# Altium footprint library MD Edge Connectors.PcbLib: 8 footprints
Each footprint in its own frame and in the unit in brackets; x right, y up, seen from the top. Pads: shape width x height; smd on the part's side, far side on the other; paste and mask are expansions set on the pad; w line width, h text height; cw(c..) or ccw(c..) is an arc to the next point about the centre after c.
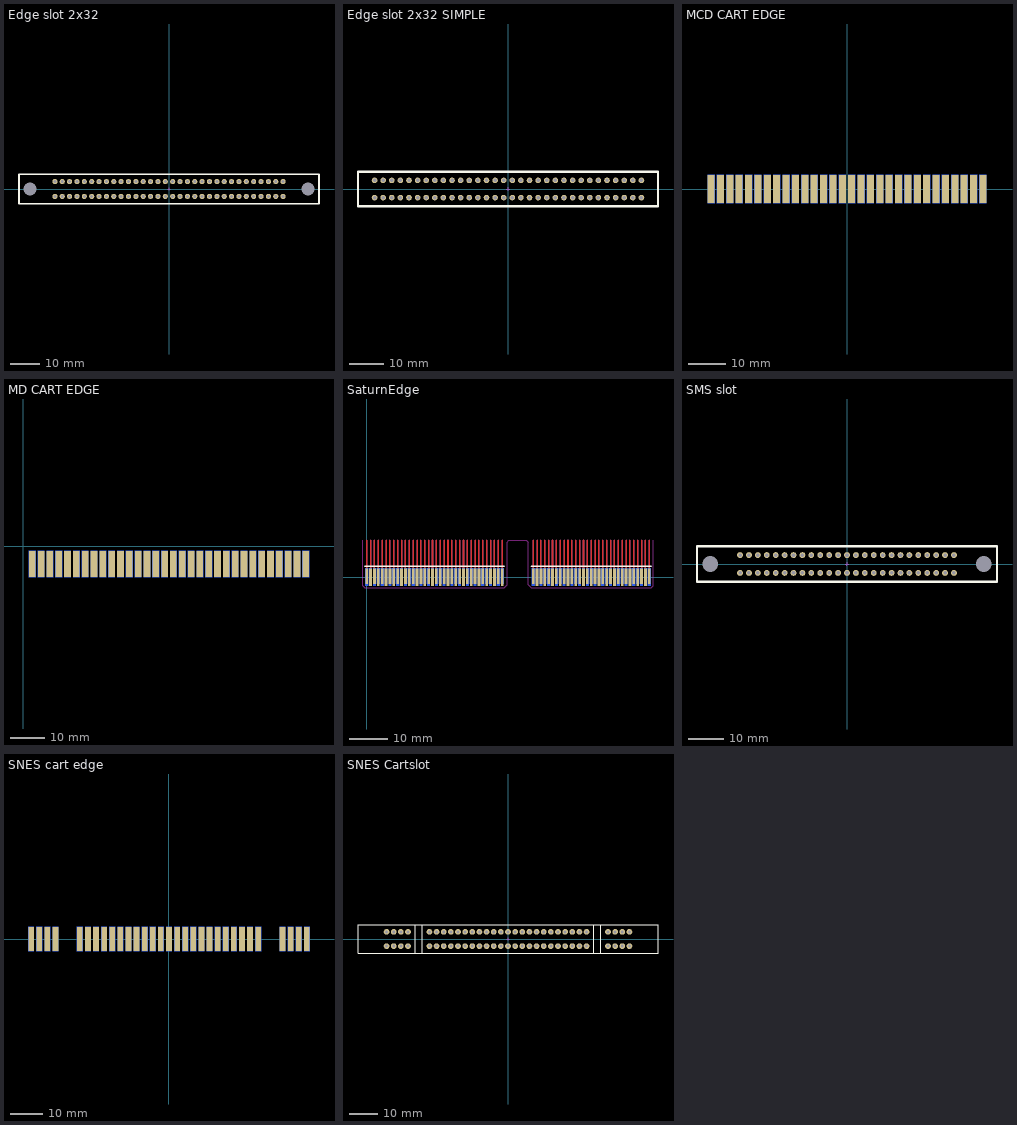
[diagram p0: the footprints below, top view; thin cyan lines are the x and y axes]

## Edge slot 2x32 [mil]
height 472.44
pads (66):
  round 75 hole 177.17 unplated paste-100: -(-1888.58,0) -(1888.58,0)
  round 70 hole 40: A1(-1550,100) A2(-1450,100) A3(-1350,100) A4(-1250,100) A5(-1150,100) A6(-1050,100) A7(-950,100) A8(-850,100) A9(-750,100) A10(-650,100) A11(-550,100) A12(-450,100) A13(-350,100) A14(-250,100) A15(-150,100) A16(-50,100) A17(50,100) A18(150,100) A19(250,100) A20(350,100) A21(450,100) A22(550,100) A23(650,100) A24(750,100) A25(850,100) A26(950,100) A27(1050,100) A28(1150,100) A29(1250,100) A30(1350,100) A31(1450,100) A32(1550,100) B1(-1550,-100) B2(-1450,-100) B3(-1350,-100) B4(-1250,-100) B5(-1150,-100) B6(-1050,-100) B7(-950,-100) B8(-850,-100) B9(-750,-100) B10(-650,-100) B11(-550,-100) B12(-450,-100) B13(-350,-100) B14(-250,-100) B15(-150,-100) B16(-50,-100) B17(50,-100) B18(150,-100) B19(250,-100) B20(350,-100) B21(450,-100) B22(550,-100) B23(650,-100) B24(750,-100) B25(850,-100) B26(950,-100) B27(1050,-100) B28(1150,-100) B29(1250,-100) B30(1350,-100) B31(1450,-100) B32(1550,-100)
Top Overlay:
  lines w25: -2037.4,-200 -2037.4,200 2037.4,200 2037.4,-200 -2037.4,-200
Mechanical 15:
  lines w3.94: -19.68,0 19.69,0 ; 0,-19.69 0,19.68
3D body "345-064-520-202 - EDAC Card Edge Connector.STEP": height 600.79, standoff -174.21, extent -2017.5,-185 2017.5,185

## Edge slot 2x32 SIMPLE [mil]
height 472.44
pads (64):
  round 65 hole 40: A1(-1550,100) A2(-1450,100) A3(-1350,100) A4(-1250,100) A5(-1150,100) A6(-1050,100) A7(-950,100) A8(-850,100) A9(-750,100) A10(-650,100) A11(-550,100) A12(-450,100) A13(-350,100) A14(-250,100) A15(-150,100) A16(-50,100) A17(50,100) A18(150,100) A19(250,100) A20(350,100) A21(450,100) A22(550,100) A23(650,100) A24(750,100) A25(850,100) A26(950,100) A27(1050,100) A28(1150,100) A29(1250,100) A30(1350,100) A31(1450,100) A32(1550,100) B1(-1550,-100) B2(-1450,-100) B3(-1350,-100) B4(-1250,-100) B5(-1150,-100) B6(-1050,-100) B7(-950,-100) B8(-850,-100) B9(-750,-100) B10(-650,-100) B11(-550,-100) B12(-450,-100) B13(-350,-100) B14(-250,-100) B15(-150,-100) B16(-50,-100) B17(50,-100) B18(150,-100) B19(250,-100) B20(350,-100) B21(450,-100) B22(550,-100) B23(650,-100) B24(750,-100) B25(850,-100) B26(950,-100) B27(1050,-100) B28(1150,-100) B29(1250,-100) B30(1350,-100) B31(1450,-100) B32(1550,-100)
Top Overlay:
  lines w25: -1742.13,-200 -1742.13,200 1742.13,200 1742.13,-200 -1742.13,-200
Mechanical 15:
  lines w3.94: -19.68,0 19.69,0 ; 0,-19.69 0,19.68
3D body "10046971001LFc.stp": height 609.84, standoff -125.59, extent -1729.52,-184.05 1729.53,184.06

## MCD CART EDGE [mil]
pads (60):
  rect 75x300 smd far side paste-100 mask+10: A1(-1450,0) A2(-1350,0) A3(-1250,0) A4(-1150,0) A5(-1050,0) A6(-950,0) A7(-850,0) A8(-750,0) A9(-650,0) A10(-550,0) A11(-450,0) A12(-350,0) A13(-250,0) A14(-150,0) A15(-50,0) A16(50,0) A17(150,0) A18(250,0) A19(350,0) A20(450,0) A21(550,0) A22(650,0) A23(750,0) A24(850,0) A25(950,0) A26(1050,0) A27(1150,0) A28(1250,0) A29(1350,0) A30(1450,0)
  rect 75x300 smd paste-100 mask+10: B1(-1450,0) B2(-1350,0) B3(-1250,0) B4(-1150,0) B5(-1050,0) B6(-950,0) B7(-850,0) B8(-750,0) B9(-650,0) B10(-550,0) B11(-450,0) B12(-350,0) B13(-250,0) B14(-150,0) B15(-50,0) B16(50,0) B17(150,0) B18(250,0) B19(350,0) B20(450,0) B21(550,0) B22(650,0) B23(750,0) B24(850,0) B25(950,0) B26(1050,0) B27(1150,0) B28(1250,0) B29(1350,0) B30(1450,0)

## MD CART EDGE [mil]
pads (64):
  rect 75x300 smd far side paste-100 mask+10: A1(100,-200) A2(200,-200) A3(300,-200) A4(400,-200) A5(500,-200) A6(600,-200) A7(700,-200) A8(800,-200) A9(900,-200) A10(1000,-200) A11(1100,-200) A12(1200,-200) A13(1300,-200) A14(1400,-200) A15(1500,-200) A16(1600,-200) A17(1700,-200) A18(1800,-200) A19(1900,-200) A20(2000,-200) A21(2100,-200) A22(2200,-200) A23(2300,-200) A24(2400,-200) A25(2500,-200) A26(2600,-200) A27(2700,-200) A28(2800,-200) A29(2900,-200) A30(3000,-200) A31(3100,-200) A32(3200,-200)
  rect 75x300 smd paste-100 mask+10: B1(100,-200) B2(200,-200) B3(300,-200) B4(400,-200) B5(500,-200) B6(600,-200) B7(700,-200) B8(800,-200) B9(900,-200) B10(1000,-200) B11(1100,-200) B12(1200,-200) B13(1300,-200) B14(1400,-200) B15(1500,-200) B16(1600,-200) B17(1700,-200) B18(1800,-200) B19(1900,-200) B20(2000,-200) B21(2100,-200) B22(2200,-200) B23(2300,-200) B24(2400,-200) B25(2500,-200) B26(2600,-200) B27(2700,-200) B28(2800,-200) B29(2900,-200) B30(3000,-200) B31(3100,-200) B32(3200,-200)

## SaturnEdge [mm] "Saturn cart edge connector 134 pins"
pads (134):
  rect 0.7x4.5 smd far side paste-10 mask-10: A1(0,0) A3(2,0) A5(4,0) A7(6,0) A9(8,0) A11(10,0) A13(12,0) A15(14,0) A17(16,0) A19(18,0) A21(20,0) A23(22,0) A25(24,0) A27(26,0) A29(28,0) A31(30,0) A33(32,0) A35(34,0) A37(43,0) A39(45,0) A41(47,0) A43(49,0) A45(51,0) A47(53,0) A49(55,0) A51(57,0) A53(59,0) A55(61,0) A57(63,0) A59(65,0) A61(67,0) A63(69,0) A65(71,0) A67(73,0)
  rect 0.7x4 smd far side paste-10 mask-10: A2(1,0.25) A4(3,0.25) A6(5,0.25) A8(7,0.25) A10(9,0.25) A12(11,0.25) A14(13,0.25) A16(15,0.25) A18(17,0.25) A20(19,0.25) A22(21,0.25) A24(23,0.25) A26(25,0.25) A28(27,0.25) A30(29,0.25) A32(31,0.25) A34(33,0.25) A36(35,0.25) A38(44,0.25) A40(46,0.25) A42(48,0.25) A44(50,0.25) A46(52,0.25) A48(54,0.25) A50(56,0.25) A52(58,0.25) A54(60,0.25) A56(62,0.25) A58(64,0.25) A60(66,0.25) A62(68,0.25) A64(70,0.25) A66(72,0.25)
  rect 0.7x4 smd paste-10 mask-10: B1(0,0.25) B3(2,0.25) B5(4,0.25) B7(6,0.25) B9(8,0.25) B11(10,0.25) B13(12,0.25) B15(14,0.25) B17(16,0.25) B19(18,0.25) B21(20,0.25) B23(22,0.25) B25(24,0.25) B27(26,0.25) B29(28,0.25) B31(30,0.25) B33(32,0.25) B35(34,0.25) B37(43,0.25) B39(45,0.25) B41(47,0.25) B43(49,0.25) B45(51,0.25) B47(53,0.25) B49(55,0.25) B51(57,0.25) B53(59,0.25) B55(61,0.25) B57(63,0.25) B59(65,0.25) B61(67,0.25) B63(69,0.25) B65(71,0.25) B67(73,0.25)
  rect 0.7x4.5 smd paste-10 mask-10: B2(1,0) B4(3,0) B6(5,0) B8(7,0) B10(9,0) B12(11,0) B14(13,0) B16(15,0) B18(17,0) B20(19,0) B22(21,0) B24(23,0) B26(25,0) B28(27,0) B30(29,0) B32(31,0) B34(33,0) B36(35,0) B38(44,0) B40(46,0) B42(48,0) B44(50,0) B46(52,0) B48(54,0) B50(56,0) B52(58,0) B54(60,0) B56(62,0) B58(64,0) B60(66,0) B62(68,0) B64(70,0) B66(72,0)
Top Layer:
  lines w0.4: 0,0.25 0,9.5 ; 1,0 1,9.5 ; 2,0.25 2,9.5 ; 3,0 3,9.5 ; 4,0.25 4,9.5 ; 5,0 5,9.5 ; 6,0.25 6,9.5 ; 7,0 7,9.5 ; 8,0.25 8,9.5 ; 9,0 9,9.5 ; 10,0.25 10,9.5 ; 11,0 11,9.5 ; 12,0.25 12,9.5 ; 13,0 13,9.5 ; 14,0.25 14,9.5 ; 15,0 15,9.5 ; 16,0.25 16,9.5 ; 17,0 17,9.5 ; 18,0.25 18,9.5 ; 19,0 19,9.5 ; 20,0.25 20,9.5 ; 21,0 21,9.5 ; 22,0.25 22,9.5 ; 23,0 23,9.5 ; 24,0.25 24,9.5 ; 25,0 25,9.5 ; 26,0.25 26,9.5 ; 27,0 27,9.5 ; 28,0.25 28,9.5 ; 29,0 29,9.5 ; 30,0.25 30,9.5 ; 31,0 31,9.5 ; 32,0.25 32,9.5 ; 33,0 33,9.5 ; 34,0.25 34,9.5 ; 35,0 35,9.5 ; 43,0.25 43,9.5 ; 44,0 44,9.5 ; 45,0.25 45,9.5 ; 46,0 46,9.5 ; 47,0.25 47,9.5 ; 48,0 48,9.5 ; 49,0.25 49,9.5 ; 50,0 50,9.5 ; 51,0.25 51,9.5 ; 52,0 52,9.5 ; 53,0.25 53,9.5 ; 54,0 54,9.5 ; 55,0.25 55,9.5 ; 56,0 56,9.5 ; 57,0.25 57,9.5 ; 58,0 58,9.5 ; 59,0.25 59,9.5 ; 60,0 60,9.5 ; 61,0.25 61,9.5 ; 62,0 62,9.5 ; 63,0.25 63,9.5 ; 64,0 64,9.5 ; 65,0.25 65,9.5 ; 66,0 66,9.5 ; 67,0.25 67,9.5 ; 68,0 68,9.5 ; 69,0.25 69,9.5 ; 70,0 70,9.5 ; 71,0.25 71,9.5 ; 72,0 72,9.5 ; 73,0.25 73,9.5
Bottom Layer:
  lines w0.4: 0,0 0,9.5 ; 1,0.25 1,9.5 ; 2,0 2,9.5 ; 3,0.25 3,9.5 ; 4,0 4,9.5 ; 5,0.25 5,9.5 ; 6,0 6,9.5 ; 7,0.25 7,9.5 ; 8,0 8,9.5 ; 9,0.25 9,9.5 ; 10,0 10,9.5 ; 11,0.25 11,9.5 ; 12,0 12,9.5 ; 13,0.25 13,9.5 ; 14,0 14,9.5 ; 15,0.25 15,9.5 ; 16,0 16,9.5 ; 17,0.25 17,9.5 ; 18,0 18,9.5 ; 19,0.25 19,9.5 ; 20,0 20,9.5 ; 21,0.25 21,9.5 ; 22,0 22,9.5 ; 23,0.25 23,9.5 ; 24,0 24,9.5 ; 25,0.25 25,9.5 ; 26,0 26,9.5 ; 27,0.25 27,9.5 ; 28,0 28,9.5 ; 29,0.25 29,9.5 ; 30,0 30,9.5 ; 31,0.25 31,9.5 ; 32,0 32,9.5 ; 33,0.25 33,9.5 ; 34,0 34,9.5 ; 35,0.25 35,9.5 ; 43,0 43,9.5 ; 44,0.25 44,9.5 ; 45,0 45,9.5 ; 46,0.25 46,9.5 ; 47,0 47,9.5 ; 48,0.25 48,9.5 ; 49,0 49,9.5 ; 50,0.25 50,9.5 ; 51,0 51,9.5 ; 52,0.25 52,9.5 ; 53,0 53,9.5 ; 54,0.25 54,9.5 ; 55,0 55,9.5 ; 56,0.25 56,9.5 ; 57,0 57,9.5 ; 58,0.25 58,9.5 ; 59,0 59,9.5 ; 60,0.25 60,9.5 ; 61,0 61,9.5 ; 62,0.25 62,9.5 ; 63,0 63,9.5 ; 64,0.25 64,9.5 ; 65,0 65,9.5 ; 66,0.25 66,9.5 ; 67,0 67,9.5 ; 68,0.25 68,9.5 ; 69,0 69,9.5 ; 70,0.25 70,9.5 ; 71,0 71,9.5 ; 72,0.25 72,9.5 ; 73,0 73,9.5
Top Overlay:
  lines w0.4: -0.5,2.75 35.5,2.75 ; 42.5,2.75 73.5,2.75
Bottom Overlay:
  lines w0.4: -0.5,2.75 35.5,2.75 ; 42.5,2.75 73.5,2.75
Top Solder:
  region: -1,2.25 36.25,2.25 36.25,-2 35.5,-2.75 -0.5,-2.75 -1,-2.25
  region: 41.75,-2 42.5,-2.75 73.5,-2.75 74,-2.25 74,2.25 41.75,2.25
Bottom Solder:
  region: 41.75,-2 42.5,-2.75 73.5,-2.75 74,-2.25 74,2.25 41.75,2.25
  region: -1,2.25 36.25,2.25 36.25,-2 35.5,-2.75 -0.5,-2.75 -1,-2.25
Keep-Out Layer:
  lines w0.254: -1,9.5 -1,-2.25 -0.5,-2.75 35.5,-2.75 36.25,-2 36.25,9 36.75,9.5 41.25,9.5 41.75,9 41.75,-2 42.5,-2.75 73.5,-2.75 74,-2.25 74,9.5

## SMS slot [mil]
pads (52):
  round 65 hole 40: 1(-1200,-100) 2(-1200,100) 3(-1100,-100) 4(-1100,100) 5(-1000,-100) 6(-1000,100) 7(-900,-100) 8(-900,100) 9(-800,-100) 10(-800,100) 11(-700,-100) 12(-700,100) 13(-600,-100) 14(-600,100) 15(-500,-100) 16(-500,100) 17(-400,-100) 18(-400,100) 19(-300,-100) 20(-300,100) 21(-200,-100) 22(-200,100) 23(-100,-100) 24(-100,100) 25(0,-100) 26(0,100) 27(100,-100) 28(100,100) 29(200,-100) 30(200,100) 31(300,-100) 32(300,100) 33(400,-100) 34(400,100) 35(500,-100) 36(500,100) 37(600,-100) 38(600,100) 39(700,-100) 40(700,100) 41(800,-100) 42(800,100) 43(900,-100) 44(900,100) 45(1000,-100) 46(1000,100) 47(1100,-100) 48(1100,100) 49(1200,-100) 50(1200,100)
  round 75 hole 177.17 unplated paste-100: -(-1535.43,0) -(1535.43,0)
Top Overlay:
  lines w25: -1683.07,-200 1683.07,-200 1683.07,200 -1683.07,200 -1683.07,-200
Mechanical 15:
  lines w3.94: -19.68,0 19.68,0 ; 0,-19.68 0,19.68
3D body "345-050-520-202 - EDAC Card Edge Connector.STEP": height 600.79, standoff -174.21, extent -1667.5,-185 1667.5,185

## SNES cart edge [mm]
pads (62):
  rect 1.75x7.5 smd far side paste-2.54: 1(42.5,0) 2(40,0) 3(37.5,0) 4(35,0) 5(27.5,0) 6(25,0) 7(22.5,0) 8(20,0) 9(17.5,0) 10(15,0) 11(12.5,0) 12(10,0) 13(7.5,0) 14(5,0) 15(2.5,0) 16(0,0) 17(-2.5,0) 18(-5,0) 19(-7.5,0) 20(-10,0) 21(-12.5,0) 22(-15,0) 23(-17.5,0) 24(-20,0) 25(-22.5,0) 26(-25,0) 27(-27.5,0) 28(-35,0) 29(-37.5,0) 30(-40,0) 31(-42.5,0)
  rect 1.75x7.5 smd paste-2.54: 32(42.5,0) 33(40,0) 34(37.5,0) 35(35,0) 36(27.5,0) 37(25,0) 38(22.5,0) 39(20,0) 40(17.5,0) 41(15,0) 42(12.5,0) 43(10,0) 44(7.5,0) 45(5,0) 46(2.5,0) 47(0,0) 48(-2.5,0) 49(-5,0) 50(-7.5,0) 51(-10,0) 52(-12.5,0) 53(-15,0) 54(-17.5,0) 55(-20,0) 56(-22.5,0) 57(-25,0) 58(-27.5,0) 59(-35,0) 60(-37.5,0) 61(-40,0) 62(-42.5,0)

## SNES Cartslot [mm]
pads (62):
  round 2 hole 1 paste-2.54: 1(-42.5,-2.5) 2(-40,-2.5) 3(-37.5,-2.5) 4(-35,-2.5) 5(-27.5,-2.5) 6(-25,-2.5) 7(-22.5,-2.5) 8(-20,-2.5) 9(-17.5,-2.5) 10(-15,-2.5) 11(-12.5,-2.5) 12(-10,-2.5) 13(-7.5,-2.5) 14(-5,-2.5) 15(-2.5,-2.5) 16(0,-2.5) 17(2.5,-2.5) 18(5,-2.5) 19(7.5,-2.5) 20(10,-2.5) 21(12.5,-2.5) 22(15,-2.5) 23(17.5,-2.5) 24(20,-2.5) 25(22.5,-2.5) 26(25,-2.5) 27(27.5,-2.5) 28(35,-2.5) 29(37.5,-2.5) 30(40,-2.5) 31(42.5,-2.5) 32(-42.5,2.5) 33(-40,2.5) 34(-37.5,2.5) 35(-35,2.5) 36(-27.5,2.5) 37(-25,2.5) 38(-22.5,2.5) 39(-20,2.5) 40(-17.5,2.5) 41(-15,2.5) 42(-12.5,2.5) 43(-10,2.5) 44(-7.5,2.5) 45(-5,2.5) 46(-2.5,2.5) 47(0,2.5) 48(2.5,2.5) 49(5,2.5) 50(7.5,2.5) 51(10,2.5) 52(12.5,2.5) 53(15,2.5) 54(17.5,2.5) 55(20,2.5) 56(22.5,2.5) 57(25,2.5) 58(27.5,2.5) 59(35,2.5) 60(37.5,2.5) 61(40,2.5) 62(42.5,2.5)
Top Overlay:
  lines w0.254: -32.5,-5 -32.5,5 ; -30,-5 -30,5 ; 30,-5 30,5 ; 32.5,-5 32.5,5 ; -52.5,-5 52.5,-5 52.5,5 -52.5,5 -52.5,-5
Mechanical 15:
  lines w0.1: -0.5,0 0.5,0 ; 0,-0.5 0,0.5